# EAGLE library part LED_MATRIX (library NBitWonder)
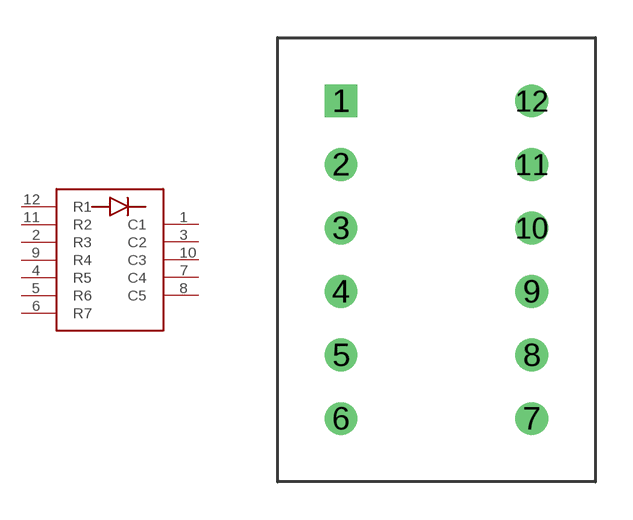
[diagram p8: symbol with the pads of LED_MATRIX_0IN7; footprint LED_MATRIX_0IN7]

Designator prefix -

## LED_MATRIX  [LED_MATRIX_0IN7]
1  C1
2  R3
3  C2
4  R5
5  R6
6  R7
7  C4
8  C5
9  R4
10  C3
11  R2
12  R1

## Footprint LED_MATRIX_0IN7 (pad centres in mm)
drill 0.8 square: 1 2.54,15.24
drill 0.8 round: 2 2.54,12.7; 3 2.54,10.16; 4 2.54,7.62; 5 2.54,5.08; 6 2.54,2.54; 7 10.16,2.54; 8 10.16,5.08; 9 10.16,7.62; 10 10.16,10.16; 11 10.16,12.7; 12 10.16,15.24